# EAGLE library part 80C552Q80 (library philips-6)
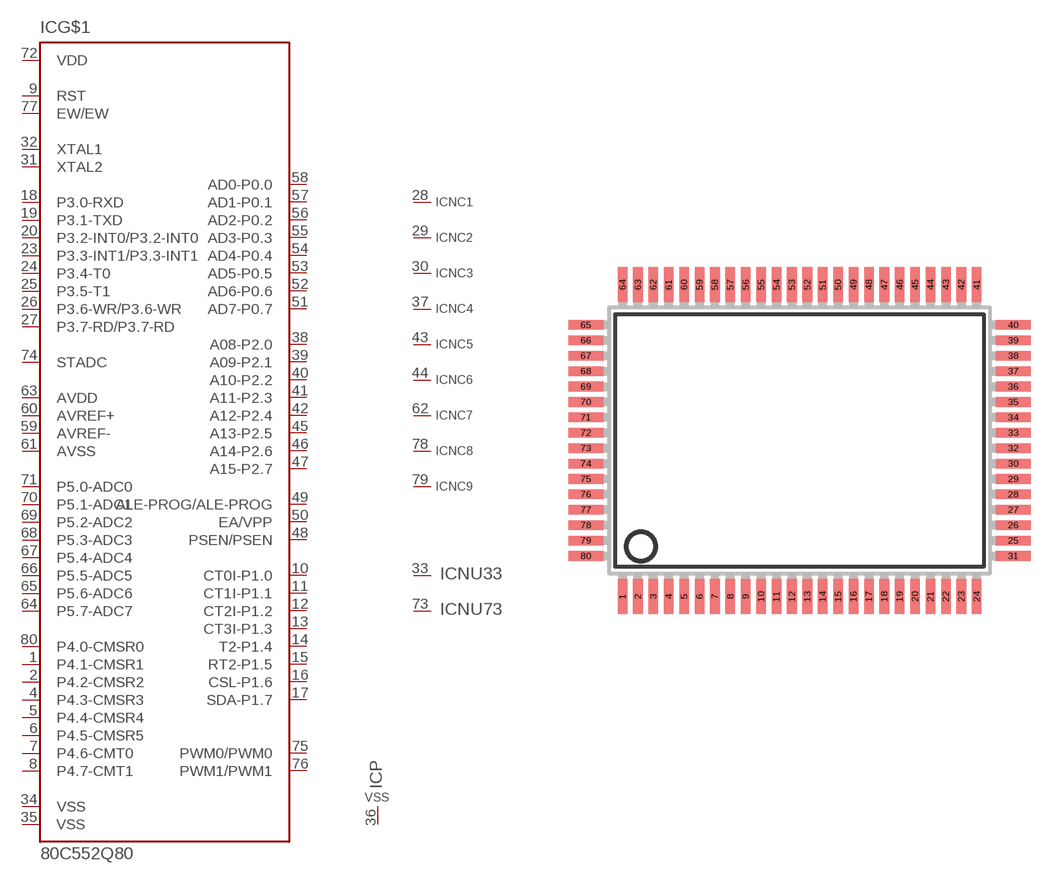
[diagram p2: symbol with the pads of QFP80R; footprint QFP80R]

Designator prefix IC; gates G$1=80C552 NC1=NC NC2=NC NC3=NC NC4=NC NC5=NC NC6=NC NC7=NC NC8=NC NC9=NC P=VSS NU33=NU NU73=NU

## 80C552Q80  [QFP80R]
1  G$1:P4.1-CMSR1
2  G$1:P4.2-CMSR2
3  G$1:NC1  nc
4  G$1:P4.3-CMSR3
5  G$1:P4.4-CMSR4
6  G$1:P4.5-CMSR5
7  G$1:P4.6-CMT0
8  G$1:P4.7-CMT1
9  G$1:RST
10  G$1:CT0I-P1.0
11  G$1:CT1I-P1.1
12  G$1:CT2I-P1.2
13  G$1:CT3I-P1.3
14  G$1:T2-P1.4
15  G$1:RT2-P1.5
16  G$1:CSL-P1.6
17  G$1:SDA-P1.7
18  G$1:P3.0-RXD
19  G$1:P3.1-TXD
20  G$1:P3.2-INT0/P3.2-INT0
21  G$1:NC2  nc
22  G$1:NC3  nc
23  G$1:P3.3-INT1/P3.3-INT1
24  G$1:P3.4-T0
25  G$1:P3.5-T1
26  G$1:P3.6-WR/P3.6-WR
27  G$1:P3.7-RD/P3.7-RD
28  NC1:NC  nc
29  NC2:NC  nc
30  NC3:NC  nc
31  G$1:XTAL2  out
32  G$1:XTAL1  in
33  NU33:IC-NU  nc
34  G$1:VSS  pwr
35  G$1:VSS  pwr
36  P:VSS  pwr
37  NC4:NC  nc
38  G$1:A08-P2.0
39  G$1:A09-P2.1
40  G$1:A10-P2.2
41  G$1:A11-P2.3
42  G$1:A12-P2.4
43  NC5:NC  nc
44  NC6:NC  nc
45  G$1:A13-P2.5
46  G$1:A14-P2.6
47  G$1:A15-P2.7
48  G$1:PSEN/PSEN  out
49  G$1:ALE-PROG/ALE-PROG  out
50  G$1:EA/VPP  in
51  G$1:AD7-P0.7
52  G$1:AD6-P0.6
53  G$1:AD5-P0.5
54  G$1:AD4-P0.4
55  G$1:AD3-P0.3
56  G$1:AD2-P0.2
57  G$1:AD1-P0.1
58  G$1:AD0-P0.0
59  G$1:AVREF-  in
60  G$1:AVREF+  in
61  G$1:AVSS  in
62  NC7:NC  nc
63  G$1:AVDD  in
64  G$1:P5.7-ADC7
65  G$1:P5.6-ADC6
66  G$1:P5.5-ADC5
67  G$1:P5.4-ADC4
68  G$1:P5.3-ADC3
69  G$1:P5.2-ADC2
70  G$1:P5.1-ADC1
71  G$1:P5.0-ADC0
72  G$1:VDD  pwr
73  NU73:IC-NU  nc
74  G$1:STADC  in
75  G$1:PWM0/PWM0  out
76  G$1:PWM1/PWM1  out
77  G$1:EW/EW  in
78  NC8:NC  nc
79  NC9:NC  nc
80  G$1:P4.0-CMSR0

## Footprint QFP80R (pad centres in mm)
smd 0.5 x 1.8: 1 -9.2,-8.1; 2 -8.4,-8.1; 3 -7.6,-8.1; 4 -6.8,-8.1; 5 -6,-8.1; 6 -5.2,-8.1; 7 -4.4,-8.1; 8 -3.6,-8.1; 9 -2.8,-8.1; 10 -2,-8.1; 11 -1.2,-8.1; 12 -0.4,-8.1; 13 0.4,-8.1; 14 1.2,-8.1; 15 2,-8.1; 16 2.8,-8.1; 17 3.6,-8.1; 18 4.4,-8.1; 19 5.2,-8.1; 20 6,-8.1; 21 6.8,-8.1; 22 7.6,-8.1; 23 8.4,-8.1; 24 9.2,-8.1; 41 9.2,8.1; 42 8.4,8.1; 43 7.6,8.1; 44 6.8,8.1; 45 6,8.1; 46 5.2,8.1; 47 4.4,8.1; 48 3.6,8.1; 49 2.8,8.1; 50 2,8.1; 51 1.2,8.1; 52 0.4,8.1; 53 -0.4,8.1; 54 -1.2,8.1; 55 -2,8.1; 56 -2.8,8.1; 57 -3.6,8.1; 58 -4.4,8.1; 59 -5.2,8.1; 60 -6,8.1; 61 -6.8,8.1; 62 -7.6,8.1; 63 -8.4,8.1; 64 -9.2,8.1
smd 1.8 x 0.5: 25 11.1,-5.2; 26 11.1,-4.4; 27 11.1,-3.6; 28 11.1,-2.8; 29 11.1,-2; 30 11.1,-1.2; 31 11.1,-6; 32 11.1,-0.4; 33 11.1,0.4; 34 11.1,1.2; 35 11.1,2; 36 11.1,2.8; 37 11.1,3.6; 38 11.1,4.4; 39 11.1,5.2; 40 11.1,6; 65 -11.1,6; 66 -11.1,5.2; 67 -11.1,4.4; 68 -11.1,3.6; 69 -11.1,2.8; 70 -11.1,2; 71 -11.1,1.2; 72 -11.1,0.4; 73 -11.1,-0.4; 74 -11.1,-1.2; 75 -11.1,-2; 76 -11.1,-2.8; 77 -11.1,-3.6; 78 -11.1,-4.4; 79 -11.1,-5.2; 80 -11.1,-6